# Altium schematic symbol library CL10B105KO8NNNC.SchLib: 1 symbol
Pins are listed as number, name and electrical type; pins without a type are passive.

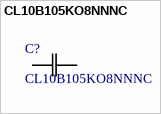
[diagram p0: symbol CL10B105KO8NNNC]

## CL10B105KO8NNNC
designator C?
Description; Manufacturer_Name: Samsung; Copyright: Copyright (C) 2025 Ultra Librarian. All rights reserved.; Manufacturer_Part_Number: CL10B105KO8NNNC
footprint CAP_CL10_SAM
pins: 1, 2